# EAGLE library part PIC32MX270F256D (library Honghe_Qi_ME433_HW2_Library)
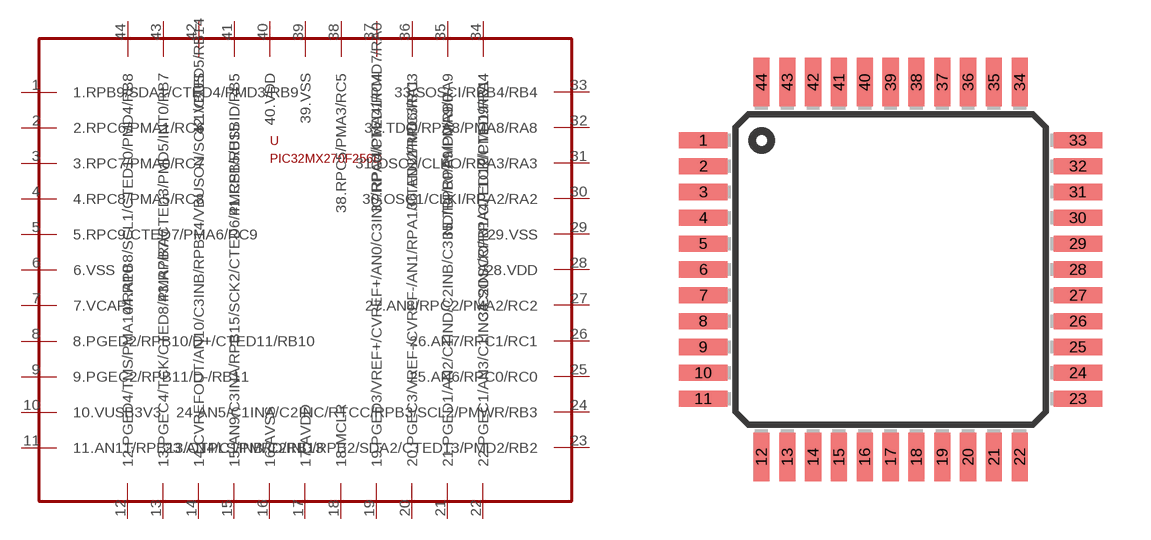
[diagram p1: symbol with the pads of TQFP44; footprint TQFP44]

Designator prefix -

## PIC32MX270F256D  [TQFP44]
1  1.RPB9/SDA1/CTED4/PMD3/RB9
2  2.RPC6/PMA1/RC6
3  3.RPC7/PMA0/RC7
4  4.RPC8/PMA5/RC8
5  5.RPC9/CTED7/PMA6/RC9
6  6.VSS
7  7.VCAP
8  8.PGED2/RPB10/D+/CTED11/RB10
9  9.PGEC2/RPB11/D-/RB11
10  10.VUSB3V3
11  11.AN11/RPB13/CTPLS/PMRD/RB13
12  12.PGED4/TMS/PMA10/RA10
13  13.PGEC4/TCK/CTED8/PMA7/RA7
14  14.CVREFOUT/AN10/C3INB/RPB14/VBUSON/SCK1/CTED5/RB14
15  15.AN9/C3INA/RPB15/SCK2/CTED6/PMCS1/RB15
16  16.AVSS
17  17.AVDD
18  18.MCLR
19  19.PGED3/VREF+/CVREF+/AN0/C3INC/RPA0/CTED1/PMD7/RA0
20  20.PGEC3/VREF-/CVREF-/AN1/RPA1/CTED2/PMD6/RA1
21  21.PGED1/AN2/C1IND/C2INB/C3IND/RPB0/PMD0/RB0
22  22.PGEC1/AN3/C1INC/C2INA/RPB1/CTED12/PMD1/RB1
23  23.AN4/C1INB/C2IND/RPB2/SDA2/CTED13/PMD2/RB2
24  24.AN5/C1INA/C2INC/RTCC/RPB3/SCL2/PMWR/RB3
25  25.AN6/RPC0/RC0
26  26.AN7/RPC1/RC1
27  27.AN8/RPC2/PMA2/RC2
28  28.VDD
29  29.VSS
30  30.OSC1/CLKI/RPA2/RA2
31  31.OSC2/CLKO/RPA3/RA3
32  32.TDO/RPA8/PMA8/RA8
33  33.SOSCI/RPB4/RB4
34  34.SOSCO/RPA4/T1CK/CTED9/RA4
35  35.TDI/RPA9/PMA9/RA9
36  36.AN12/RPC3/RC3
37  37.RPC4/PMA4/RC4
38  38.RPC5/PMA3/RC5
39  39.VSS
40  40.VDD
41  41.RPB5/USBID/RB5
42  42.VBUS
43  43.RPB7/CTED3/PMD5/INT0/RB7
44  44.RPB8/SCL1/CTED10/PMD4/RB8

## Footprint TQFP44 (pad centres in mm)
Thin Quad Flat Pack package type TQ
smd 1.5 x 0.5: 1 -5.8,4; 2 -5.8,3.2; 3 -5.8,2.4; 4 -5.8,1.6; 5 -5.8,0.8; 6 -5.8,0; 7 -5.8,-0.8; 8 -5.8,-1.6; 9 -5.8,-2.4; 10 -5.8,-3.2; 11 -5.8,-4; 23 5.8,-4; 24 5.8,-3.2; 25 5.8,-2.4; 26 5.8,-1.6; 27 5.8,-0.8; 28 5.8,0; 29 5.8,0.8; 30 5.8,1.6; 31 5.8,2.4; 32 5.8,3.2; 33 5.8,4
smd 0.5 x 1.5: 12 -4,-5.8; 13 -3.2,-5.8; 14 -2.4,-5.8; 15 -1.6,-5.8; 16 -0.8,-5.8; 17 0,-5.8; 18 0.8,-5.8; 19 1.6,-5.8; 20 2.4,-5.8; 21 3.2,-5.8; 22 4,-5.8; 34 4,5.8; 35 3.2,5.8; 36 2.4,5.8; 37 1.6,5.8; 38 0.8,5.8; 39 0,5.8; 40 -0.8,5.8; 41 -1.6,5.8; 42 -2.4,5.8; 43 -3.2,5.8; 44 -4,5.8